# Altium footprint library 24-Pcblib_Batt.PcbLib: 6 footprints
Each footprint in its own frame and in the unit in brackets; x right, y up, seen from the top. Pads: shape width x height; smd on the part's side, far side on the other; paste and mask are expansions set on the pad; w line width, h text height; cw(c..) or ccw(c..) is an arc to the next point about the centre after c.
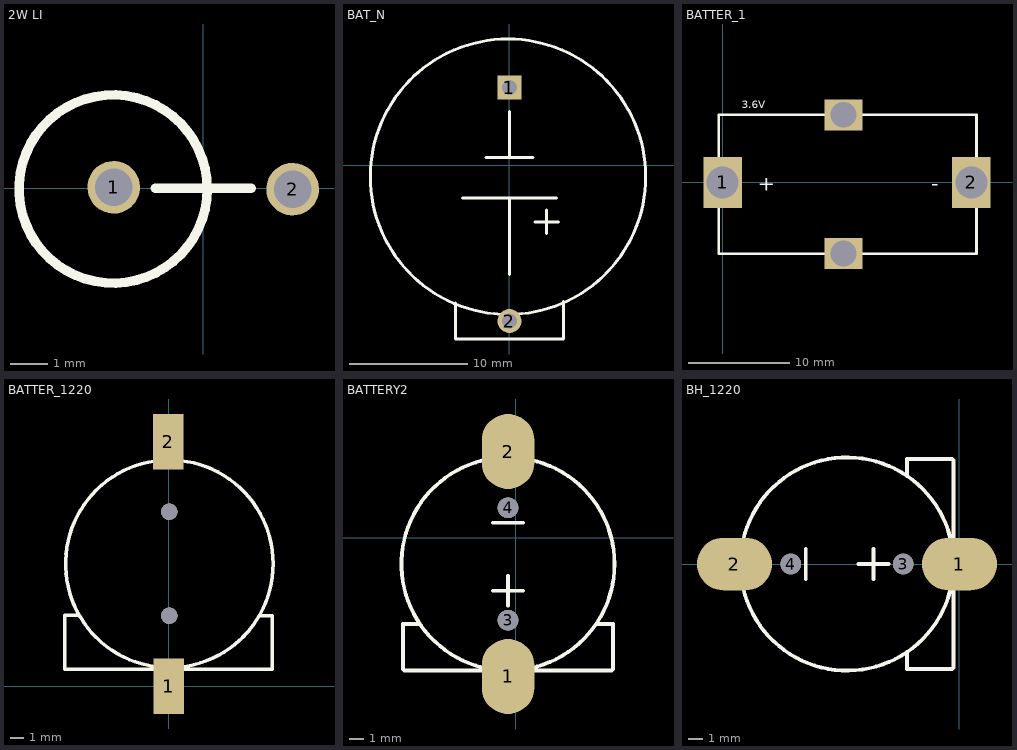
[diagram p0: the footprints below, top view; thin cyan lines are the x and y axes]

## 2W LI [mm]
pads (2):
  round 1.4 hole 1: 1(-2.376,0.024) 2(2.376,-0.024)
Top Overlay:
  circle w0.254: c-2.392,-0.02 r2.5
  lines w0.254: -1.27,0 1.27,0

## BAT_N [mil] "CR2032电池座（未加焊）"
pads (2):
  rect 80x80 hole 50: 1(0.21,260.42)
  round 80 hole 50: 2(0.21,-519.58)
Top Overlay:
  circle w10: c-4.79,-37.58 r460
  lines w10: -179.79,-459.58 -179.79,-579.58 180.21,-579.58 180.21,-453.58 ; -156.79,-108.58 157.21,-108.58 ; -77.79,27.34 78.21,27.34 ; 0.21,-364.58 0.21,-108.58 ; 0.21,28.73 0.21,180.42 ; 85.43,-188.34 164.43,-188.34 ; 124.43,-227.34 124.43,-148.34
3D body: height 301.57, standoff -181.11, extent -435.69,-565.55 435.69,385.94

## BATTER_1 [mm]
pads (4):
  rect 3.81x5.08 hole 3.175: 1(0,0) 2(24.693,0)
  rect 3.81x3.048 hole 2.54: ""(12,-7.05) ""(12,6.7)
Top Overlay:
  lines w0.254: -0.395,-7.056 25.201,-7.056 25.201,6.706 -0.395,6.706 -0.395,-7.056
  text "+" at 3.5,-0.8 h1.52
  text "-" at 20.7,-0.8 h1.52
  text "3.6V" at 1.905,7.366 h0.76

## BATTER_1220 [mm]
height 1.2
pads (2):
  rect 2.2x4 smd: 1(0,0) 2(-0.025,17.653)
via 0.051,12.598 diameter 1.2 hole 1.2
via 0.051,5.08 diameter 1.2 hole 1.2
Top Overlay:
  circle w0.254: c0.051,8.839 r7.493
  lines w0.254: -6.477,5.156 -6.502,5.131 -7.493,5.131 -7.493,1.219 0,1.219 7.493,1.219 7.493,5.105 6.604,5.105
3D body: height 4.25, standoff -1, extent -7.374,-0.8 7.375,18.4

## BATTERY2 [mil] "BATTERY2"
pads (4):
  oval 140x200 smd: 1(-20,-370) 2(-20,230)
  round 55.12 hole 55.12 unplated: 3(-20,-220) 4(-20,80)
Top Overlay:
  circle w10: c-20,-70 r284.25
  lines w10: -260,-230 -300,-230 -300,-350 -295.75,-354.25 -20,-354.25 255.75,-354.25 260,-350 260,-230 220,-230 ; -60,40 20,40 ; -59.8,-141 20.2,-141 ; -19.8,-181 -19.8,-101
3D body: height 172.57, standoff -14.43, extent -310,-470.84 270.66,300.84

## BH_1220 [mil]
pads (4):
  oval 200x140 smd: 1(0,0) 2(-600,0)
  round 55.12 hole 55.12 unplated: 3(-150,0) 4(-450,0)
Top Overlay:
  circle w10: c-300,0 r284.25
  lines w10: -410,-40 -410,40 ; -269,0.2 -189,0.2 ; -229,-39.8 -229,40.2 ; -140,-240 -140,-280 -20,-280 -15.75,-275.75 -15.75,0 -15.75,275.75 -20,280 -140,280 -140,240
3D body: height 167.32, standoff -39.37, extent -679.42,-288.32 76.51,292.34